# EAGLE library part NOKIA5110 (library DRV8833)
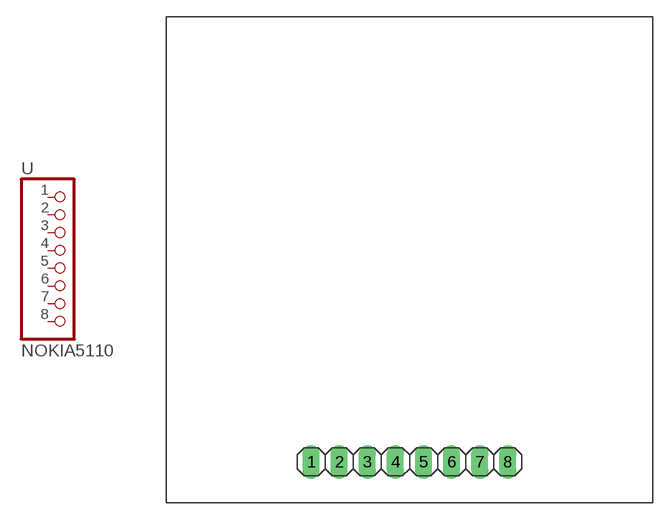
[diagram p1: symbol with the pads of 1X08; footprint 1X08]

Designator prefix -

## NOKIA5110  [1X08]
1  1  pas
2  2  pas
3  3  pas
4  4  pas
5  5  pas
6  6  pas
7  7  pas
8  8  pas

## Footprint 1X08 (pad centres in mm)
PIN HEADER
drill 1.016 long: 1 -9.89,-34.29; 2 -7.35,-34.29; 3 -4.81,-34.29; 4 -2.27,-34.29; 5 0.27,-34.29; 6 2.81,-34.29; 7 5.35,-34.29; 8 7.89,-34.29